# Altium footprint library XILINX-XC7A200T2.PcbLib: 31 footprints (part 1 of 3)
Each footprint in its own frame and in the unit in brackets; x right, y up, seen from the top. Pads: shape width x height; smd on the part's side, far side on the other; paste and mask are expansions set on the pad; w line width, h text height; cw(c..) or ccw(c..) is an arc to the next point about the centre after c.
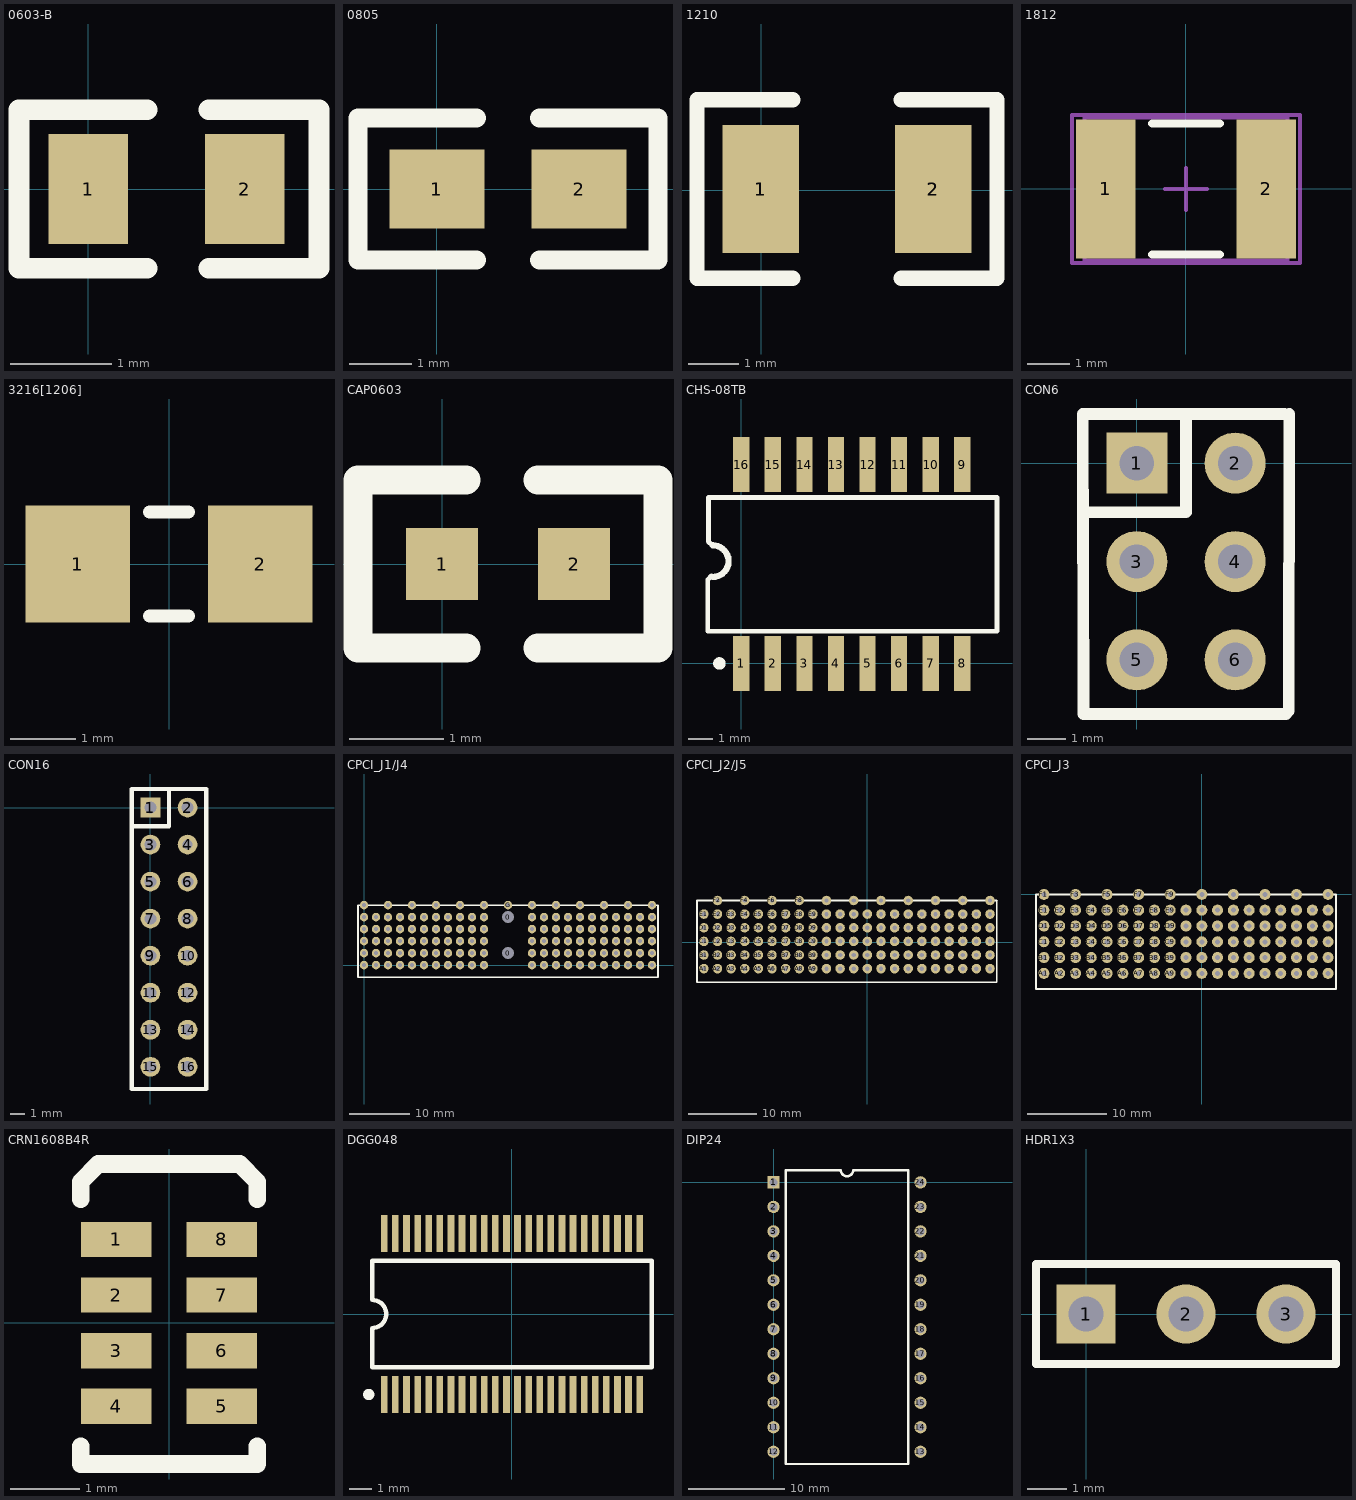
[diagram p0: the footprints below, top view; thin cyan lines are the x and y axes]

## 0603-B [mil]
pads (2):
  rect 31x43 smd: 1(0,0) 2(61,0)
Top Overlay:
  lines w8: 23,-31 -27,-31 -27,31 23,31 ; 47,-31 90,-31 90,31 47,31

## 0805 [mil]
pads (2):
  rect 60x50 smd: 1(0,0) 2(90,0)
Top Overlay:
  lines w12: 25,-45 -50,-45 -50,45 25,45 ; 65,-45 140,-45 140,45 65,45

## 1210 [mil]
pads (4):
  rect 60x100 smd: 1(-0.32,0.88) 1(-0.32,0.88) 2(134.68,0.88) 2(134.68,0.88)
Top Overlay:
  lines w7.87: 24.68,-69.12 -50.32,-69.12 -50.32,70.88 24.68,70.88 ; 109.68,-69.12 184.68,-69.12 184.68,70.88 109.68,70.88
  lines w12: 24.68,-69.12 -50.32,-69.12 -50.32,70.88 24.68,70.88 ; 109.68,-69.12 184.68,-69.12 184.68,70.88 109.68,70.88

## 1812 [mm] "Chip Capacitor, Body 4.5x3.2mm, IPC High Density"
height 1.4
pads (2):
  rect 1.4x3.3 smd: 1(-1.9,0) 2(1.9,0)
Top Overlay:
  lines w0.2: -0.8,-1.55 0.8,-1.55 ; -0.8,1.55 0.8,1.55
Mechanical 13:
  lines w0.1: -2.4,-1.7 2.4,-1.7 2.4,1.7 -2.4,1.7 -2.4,-1.7
Mechanical 15:
  lines w0.1: -0.5,0 0.5,0 ; 0,-0.5 0,0.5 ; -2.7,-1.75 2.7,-1.75 2.7,1.75 -2.7,1.75 -2.7,-1.75
3D body: height 1.4, standoff 0, extent -2.4,-1.7 2.4,1.7

## 3216[1206] [mm]
pads (2):
  rect 1.6x1.8 smd: 1(-1.4,0) 2(1.4,0)
Top Overlay:
  lines w0.2: -0.3,-0.8 0.3,-0.8 ; -0.3,0.8 0.3,0.8

## CAP0603 [mil]
pads (2):
  rect 30x30 smd: 1(0,0) 2(55,0)
Top Overlay:
  lines w12: 10,-35 -35,-35 -35,35 10,35 ; 40,-35 90,-35 90,35 40,35

## CHS-08TB [mm]
pads (16):
  rect 0.65x2.2 smd: 1(0,0) 2(1.27,0) 3(2.54,0) 4(3.81,0) 5(5.08,0) 6(6.35,0) 7(7.62,0) 8(8.89,0) 9(8.89,8) 10(7.62,8) 11(6.35,8) 12(5.08,8) 13(3.81,8) 14(2.54,8) 15(1.27,8) 16(0,8)
Top Overlay:
  circle w0.254: c-0.875,0 r0.125
  lines w0.2: -1.194,3.522 -1.346,3.37 -1.346,1.295 10.287,1.295 10.287,6.68 -1.321,6.68 -1.321,4.902 -1.168,4.75
  lines w0.254: -1.143,3.48 ccw(c-1.143,4.115) -1.143,4.75

## CON6 [mil]
pads (6):
  rect 62x62 hole 35: 1(0,0)
  round 62 hole 35: 2(100,0) 3(0,-100) 4(100,-100) 5(0,-200) 6(100,-200)
Top Overlay:
  lines w12: -54.13,-255.04 -55,50 150,50 ; -50,-50 50,-50 50,50 ; 154.57,-252 155,50
  lines w12.01: -54.13,-255.04 151.53,-255.04

## CON16 [mm]
height 5.85
pads (16):
  rect 1.35x1.35 hole 0.8 square: 1(0,0)
  round 1.35 hole 0.8 square: 2(2.54,0) 3(0,-2.54) 5(0,-5.08) 6(2.54,-5.08) 7(0,-7.62) 8(2.54,-7.62) 9(0,-10.16) 10(2.54,-10.16) 11(0,-12.7) 12(2.54,-12.7) 13(0,-15.24) 14(2.54,-15.24) 15(0,-17.78) 16(2.54,-17.78)
  round 1.35 hole 0.71 square: 4(2.54,-2.54)
Top Overlay:
  lines w0.305: -1.27,-1.27 1.27,-1.27 1.27,1.27 ; -1.27,-19.304 3.81,-19.304 3.81,1.27 -1.27,1.27 -1.27,-19.304

## CPCI_J1/J4 [mm]
height 1.75
pads (125):
  round 1.524 hole 2: 0(24,2) 0(24,8)
  round 1.4 hole 0.635: A1(0,0) A2(2,0) A3(4,0) A4(6,0) A5(8,0) A6(10,0) A7(12,0) A8(14,0) A9(16,0) A10(18,0) A11(20,0) A15(28,0) A16(30,0) A17(32,0) A18(34,0) A19(36,0) A20(38,0) A21(40,0) A22(42,0) A23(44,0) A24(46,0) A25(48,0) B1(0,2) B2(2,2) B3(4,2) B4(6,2) B5(8,2) B6(10,2) B7(12,2) B8(14,2) B9(16,2) B10(18,2) B11(20,2) B15(28,2) B16(30,2) B17(32,2) B18(34,2) B19(36,2) B20(38,2) B21(40,2) B22(42,2) B23(44,2) B24(46,2) B25(48,2) C1(0,4) C2(2,4) C3(4,4) C4(6,4) C5(8,4) C6(10,4) C7(12,4) C8(14,4) C9(16,4) C10(18,4) C11(20,4) C15(28,4) C16(30,4) C17(32,4) C18(34,4) C19(36,4) C20(38,4) C21(40,4) C22(42,4) C23(44,4) C24(46,4) C25(48,4) D1(0,6) D2(2,6) D3(4,6) D4(6,6) D5(8,6) D6(10,6) D7(12,6) D8(14,6) D9(16,6) D10(18,6) D11(20,6) D15(28,6) D16(30,6) D17(32,6) D18(34,6) D19(36,6) D20(38,6) D21(40,6) D22(42,6) D23(44,6) D24(46,6) D25(48,6) E1(0,8) E2(2,8) E3(4,8) E4(6,8) E5(8,8) E6(10,8) E7(12,8) E8(14,8) E9(16,8) E10(18,8) E11(20,8) E15(28,8) E16(30,8) E17(32,8) E18(34,8) E19(36,8) E20(38,8) E21(40,8) E22(42,8) E23(44,8) E24(46,8) E25(48,8) F1(0,10) F3(4,10) F5(8,10) F7(12,10) F9(16,10) F11(20,10) F15(28,10) F17(32,10) F19(36,10) F21(40,10) F23(44,10) F25(48,10) G(24,10)
Top Overlay:
  lines w0.254: -1,-2 -1,10 49,10 49,-2 -1,-2

## CPCI_J2/J5 [mm]
height 1.75
pads (121):
  round 1.4 hole 0.635: A1(-24,-3.9) A2(-22,-3.9) A3(-20,-3.9) A4(-18,-3.9) A5(-16,-3.9) A6(-14,-3.9) A7(-12,-3.9) A8(-10,-3.9) A9(-8,-3.9) A10(-6,-3.9) A11(-4,-3.9) A12(-2,-3.9) A13(0,-3.9) A14(2,-3.9) A15(4,-3.9) A16(6,-3.9) A17(8,-3.9) A18(10,-3.9) A19(12,-3.9) A20(14,-3.9) A21(16,-3.9) A22(18,-3.9) B1(-24,-1.9) B2(-22,-1.9) B3(-20,-1.9) B4(-18,-1.9) B5(-16,-1.9) B6(-14,-1.9) B7(-12,-1.9) B8(-10,-1.9) B9(-8,-1.9) B10(-6,-1.9) B11(-4,-1.9) B12(-2,-1.9) B13(0,-1.9) B14(2,-1.9) B15(4,-1.9) B16(6,-1.9) B17(8,-1.9) B18(10,-1.9) B19(12,-1.9) B20(14,-1.9) B21(16,-1.9) B22(18,-1.9) C1(-24,0.1) C2(-22,0.1) C3(-20,0.1) C4(-18,0.1) C5(-16,0.1) C6(-14,0.1) C7(-12,0.1) C8(-10,0.1) C9(-8,0.1) C10(-6,0.1) C11(-4,0.1) C12(-2,0.1) C13(0,0.1) C14(2,0.1) C15(4,0.1) C16(6,0.1) C17(8,0.1) C18(10,0.1) C19(12,0.1) C20(14,0.1) C21(16,0.1) C22(18,0.1) D1(-24,2.1) D2(-22,2.1) D3(-20,2.1) D4(-18,2.1) D5(-16,2.1) D6(-14,2.1) D7(-12,2.1) D8(-10,2.1) D9(-8,2.1) D10(-6,2.1) D11(-4,2.1) D12(-2,2.1) D13(0,2.1) D14(2,2.1) D15(4,2.1) D16(6,2.1) D17(8,2.1) D18(10,2.1) D19(12,2.1) D20(14,2.1) D21(16,2.1) D22(18,2.1) E1(-24,4.1) E2(-22,4.1) E3(-20,4.1) E4(-18,4.1) E5(-16,4.1) E6(-14,4.1) E7(-12,4.1) E8(-10,4.1) E9(-8,4.1) E10(-6,4.1) E11(-4,4.1) E12(-2,4.1) E13(0,4.1) E14(2,4.1) E15(4,4.1) E16(6,4.1) E17(8,4.1) E18(10,4.1) E19(12,4.1) E20(14,4.1) E21(16,4.1) E22(18,4.1) F2(-22,6.1) F4(-18,6.1) F6(-14,6.1) F8(-10,6.1) F10(-6,6.1) F12(-2,6.1) F14(2,6.1) F16(6,6.1) F18(10,6.1) F20(14,6.1) F22(18,6.1)
Top Overlay:
  lines w0.254: 18.9,6.1 -25,6.1 -25,-5.9 18.9,-5.9 18.925,-5.875 ; 19,-5.875 19,6.075 ; 19,6.1 19.025,6.075

## CPCI_J3 [mm]
height 1.75
pads (105):
  round 1.4 hole 0.635: A1(-20,-10) A2(-18,-10) A3(-16,-10) A4(-14,-10) A5(-12,-10) A6(-10,-10) A7(-8,-10) A8(-6,-10) A9(-4,-10) A10(-2,-10) A11(0,-10) A12(2,-10) A13(4,-10) A14(6,-10) A15(8,-10) A16(10,-10) A17(12,-10) A18(14,-10) A19(16,-10) B1(-20,-8) B2(-18,-8) B3(-16,-8) B4(-14,-8) B5(-12,-8) B6(-10,-8) B7(-8,-8) B8(-6,-8) B9(-4,-8) B10(-2,-8) B11(0,-8) B12(2,-8) B13(4,-8) B14(6,-8) B15(8,-8) B16(10,-8) B17(12,-8) B18(14,-8) B19(16,-8) C1(-20,-6) C2(-18,-6) C3(-16,-6) C4(-14,-6) C5(-12,-6) C6(-10,-6) C7(-8,-6) C8(-6,-6) C9(-4,-6) C10(-2,-6) C11(0,-6) C12(2,-6) C13(4,-6) C14(6,-6) C15(8,-6) C16(10,-6) C17(12,-6) C18(14,-6) C19(16,-6) D1(-20,-4) D2(-18,-4) D3(-16,-4) D4(-14,-4) D5(-12,-4) D6(-10,-4) D7(-8,-4) D8(-6,-4) D9(-4,-4) D10(-2,-4) D11(0,-4) D12(2,-4) D13(4,-4) D14(6,-4) D15(8,-4) D16(10,-4) D17(12,-4) D18(14,-4) D19(16,-4) E1(-20,-2) E2(-18,-2) E3(-16,-2) E4(-14,-2) E5(-12,-2) E6(-10,-2) E7(-8,-2) E8(-6,-2) E9(-4,-2) E10(-2,-2) E11(0,-2) E12(2,-2) E13(4,-2) E14(6,-2) E15(8,-2) E16(10,-2) E17(12,-2) E18(14,-2) E19(16,-2) F1(-20,0) F3(-16,0) F5(-12,0) F7(-8,0) F9(-4,0) F11(0,0) F13(4,0) F15(8,0) F17(12,0) F19(16,0)
Top Overlay:
  lines w0.254: -21,-12 -21,0 17,0 17,-12 -21,-12

## CRN1608B4R [mil]
pads (8):
  rect 40x20 smd: 1(-30,47.25) 2(-30,15.75) 3(-30,-15.75) 4(-30,-47.25) 5(30,-47.25) 6(30,-15.75) 7(30,15.75) 8(30,47.25)
Top Overlay:
  lines w10: -50,-70 -50,-80 50,-80 50,-70 ; -50,70 -50,80 -40,90 40,90 50,80 50,70

## DGG048 [mm] "Shrink Small Outline; 48 Leads; Body Width 6.1 mm; Pitch 0.5 mm"
height 1.2
pads (48):
  rect 0.3x1.65 smd: 1(-5.75,-3.625) 2(-5.25,-3.625) 3(-4.75,-3.625) 4(-4.25,-3.625) 5(-3.75,-3.625) 6(-3.25,-3.625) 7(-2.75,-3.625) 8(-2.25,-3.625) 9(-1.75,-3.625) 10(-1.25,-3.625) 11(-0.75,-3.625) 12(-0.25,-3.625) 13(0.25,-3.625) 14(0.75,-3.625) 15(1.25,-3.625) 16(1.75,-3.625) 17(2.25,-3.625) 18(2.75,-3.625) 19(3.25,-3.625) 20(3.75,-3.625) 21(4.25,-3.625) 22(4.75,-3.625) 23(5.25,-3.625) 24(5.75,-3.625) 25(5.75,3.625) 26(5.25,3.625) 27(4.75,3.625) 28(4.25,3.625) 29(3.75,3.625) 30(3.25,3.625) 31(2.75,3.625) 32(2.25,3.625) 33(1.75,3.625) 34(1.25,3.625) 35(0.75,3.625) 36(0.25,3.625) 37(-0.25,3.625) 38(-0.75,3.625) 39(-1.25,3.625) 40(-1.75,3.625) 41(-2.25,3.625) 42(-2.75,3.625) 43(-3.25,3.625) 44(-3.75,3.625) 45(-4.25,3.625) 46(-4.75,3.625) 47(-5.25,3.625) 48(-5.75,3.625)
Top Overlay:
  circle w0.25: c-6.45,-3.625 r0.125
  lines w0.2: -6.3,-2.4 6.3,-2.4 6.3,2.4 -6.3,2.4 -6.3,0.635 cw(c-6.3,0) -6.3,-0.635 -6.3,-2.4

## DIP24 [mil]
pads (24):
  rect 50x50 hole 32: 1(0,0)
  round 50 hole 32: 2(0,-100) 3(0,-200) 4(0,-300) 5(0,-400) 6(0,-500) 7(0,-600) 8(0,-700) 9(0,-800) 10(0,-900) 11(0,-1000) 12(0,-1100) 13(600,-1100) 14(600,-1000) 15(600,-900) 16(600,-800) 17(600,-700) 18(600,-600) 19(600,-500) 20(600,-400) 21(600,-300) 22(600,-200) 23(600,-100) 24(600,0)
Top Overlay:
  lines w10: 50,-1150 50,50 275,50 ccw(c300,50) 325,50 550,50 550,-1150 50,-1150

## HDR1X3 [mm] "Connector; Header; 3 Position"
pads (3):
  rect 1.5x1.5 hole 0.9: 1(0,0)
  round 1.5 hole 0.9: 2(2.54,0) 3(5.08,0)
Top Overlay:
  lines w0.2: -1.27,-1.27 -1.27,1.27 6.35,1.27 6.35,-1.27 -1.27,-1.27